# EAGLE library part TX2SO?-* (library relay2)
2 AMP. HIGH CAPACITY RELAY NAiS WITH HIGH SURGE VOLTAGE & HIGH BREAKDOWN VOLTAGE Source: http://www.mew-europe.com/.. en_ds_61022_0001.pdf
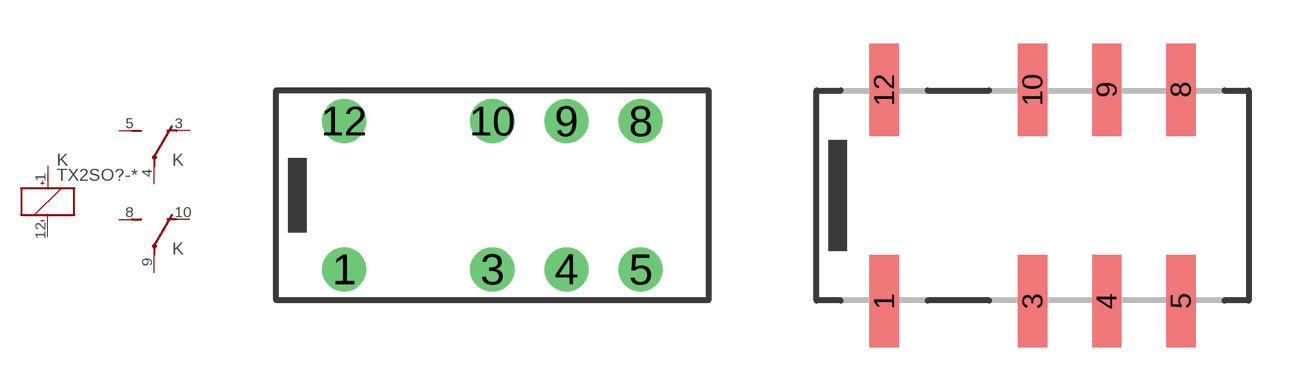
[diagram p75: symbol with the pads of TX2; footprints TX2, TX2SA]

Designator prefix K; gates _=K+- 1=U 2=U

## TX2SO-1.5V (OC_FARNELL: unknown; OC_NEWARK: unknown), TX2SO-12V (OC_FARNELL: unknown; OC_NEWARK: unknown), TX2SO-24V (OC_FARNELL: unknown; OC_NEWARK: unknown), TX2SO-3V (OC_FARNELL: unknown; OC_NEWARK: unknown), TX2SO-4.5V (OC_FARNELL: unknown; OC_NEWARK: unknown), TX2SO-5V (OC_FARNELL: unknown; OC_NEWARK: unknown), TX2SO-6V (OC_FARNELL: unknown; OC_NEWARK: unknown), TX2SO-9V (OC_FARNELL: unknown; OC_NEWARK: unknown)  [TX2]
1  _:+  pas
3  1:O  pas
4  1:P  pas
5  1:S  pas
8  2:S  pas
9  2:P  pas
10  2:O  pas
12  _:-  pas

## TX2SOSA-1.5V (OC_FARNELL: unknown; OC_NEWARK: unknown), TX2SOSA-12V (OC_FARNELL: unknown; OC_NEWARK: unknown), TX2SOSA-24V (OC_FARNELL: unknown; OC_NEWARK: unknown), TX2SOSA-3V (OC_FARNELL: unknown; OC_NEWARK: unknown), TX2SOSA-4.5V (OC_FARNELL: unknown; OC_NEWARK: unknown), TX2SOSA-48V (OC_FARNELL: unknown; OC_NEWARK: unknown), TX2SOSA-5V (OC_FARNELL: unknown; OC_NEWARK: unknown), TX2SOSA-6V (OC_FARNELL: unknown; OC_NEWARK: unknown), TX2SOSA-9V (OC_FARNELL: unknown; OC_NEWARK: unknown)  [TX2SA]
Pads as for TX2

## TX2SO-L-1.5V (OC_FARNELL: unknown; OC_NEWARK: unknown), TX2SO-L-12V (OC_FARNELL: unknown; OC_NEWARK: unknown), TX2SO-L-24V (OC_FARNELL: unknown; OC_NEWARK: unknown), TX2SO-L-3V (OC_FARNELL: unknown; OC_NEWARK: unknown), TX2SO-L-4.5V (OC_FARNELL: unknown; OC_NEWARK: unknown), TX2SO-L-5V (OC_FARNELL: unknown; OC_NEWARK: unknown), TX2SO-L-6V (OC_FARNELL: unknown; OC_NEWARK: unknown), TX2SO-L-9V (OC_FARNELL: unknown; OC_NEWARK: unknown)  [TX2]
1  _:-  pas
3  1:O  pas
4  1:P  pas
5  1:S  pas
8  2:S  pas
9  2:P  pas
10  2:O  pas
12  _:+  pas

## TX2SOSL-1.5V (OC_FARNELL: unknown; OC_NEWARK: unknown), TX2SOSL-12V (OC_FARNELL: unknown; OC_NEWARK: unknown), TX2SOSL-24V (OC_FARNELL: unknown; OC_NEWARK: unknown), TX2SOSL-3V (OC_FARNELL: unknown; OC_NEWARK: unknown), TX2SOSL-4.5V (OC_FARNELL: unknown; OC_NEWARK: unknown), TX2SOSL-48V (OC_FARNELL: unknown; OC_NEWARK: unknown), TX2SOSL-5V (OC_FARNELL: unknown; OC_NEWARK: unknown), TX2SOSL-6V (OC_FARNELL: unknown; OC_NEWARK: unknown), TX2SOSL-9V (OC_FARNELL: unknown; OC_NEWARK: unknown)  [TX2SL]
Pads as for TX2

## TX2SOSS-1.5V (OC_FARNELL: unknown; OC_NEWARK: unknown), TX2SOSS-12V (OC_FARNELL: unknown; OC_NEWARK: unknown), TX2SOSS-24V (OC_FARNELL: unknown; OC_NEWARK: unknown), TX2SOSS-3V (OC_FARNELL: unknown; OC_NEWARK: unknown), TX2SOSS-4.5V (OC_FARNELL: unknown; OC_NEWARK: unknown), TX2SOSS-48V (OC_FARNELL: unknown; OC_NEWARK: unknown), TX2SOSS-5V (OC_FARNELL: unknown; OC_NEWARK: unknown), TX2SOSS-6V (OC_FARNELL: unknown; OC_NEWARK: unknown), TX2SOSS-9V (OC_FARNELL: unknown; OC_NEWARK: unknown)  [TX2SS]
Pads as for TX2

## TX2SOSA-L-1.5V (OC_FARNELL: unknown; OC_NEWARK: unknown), TX2SOSA-L-12V (OC_FARNELL: unknown; OC_NEWARK: unknown), TX2SOSA-L-24V (OC_FARNELL: unknown; OC_NEWARK: unknown), TX2SOSA-L-3V (OC_FARNELL: unknown; OC_NEWARK: unknown), TX2SOSA-L-4.5V (OC_FARNELL: unknown; OC_NEWARK: unknown), TX2SOSA-L-5V (OC_FARNELL: unknown; OC_NEWARK: unknown), TX2SOSA-L-6V (OC_FARNELL: unknown; OC_NEWARK: unknown), TX2SOSA-L-9V (OC_FARNELL: unknown; OC_NEWARK: unknown)  [TX2SA]
Pads as for TX2

## TX2SOSL-L-1.5V (OC_FARNELL: unknown; OC_NEWARK: unknown), TX2SOSL-L-12V (OC_FARNELL: unknown; OC_NEWARK: unknown), TX2SOSL-L-24V (OC_FARNELL: unknown; OC_NEWARK: unknown), TX2SOSL-L-3V (OC_FARNELL: unknown; OC_NEWARK: unknown), TX2SOSL-L-4.5V (OC_FARNELL: unknown; OC_NEWARK: unknown), TX2SOSL-L-5V (OC_FARNELL: unknown; OC_NEWARK: unknown), TX2SOSL-L-6V (OC_FARNELL: unknown; OC_NEWARK: unknown), TX2SOSL-L-9V (OC_FARNELL: unknown; OC_NEWARK: unknown)  [TX2SL]
Pads as for TX2

## TX2SOSS-L-1.5V (OC_FARNELL: unknown; OC_NEWARK: unknown), TX2SOSS-L-12V (OC_FARNELL: unknown; OC_NEWARK: unknown), TX2SOSS-L-24V (OC_FARNELL: unknown; OC_NEWARK: unknown), TX2SOSS-L-3V (OC_FARNELL: unknown; OC_NEWARK: unknown), TX2SOSS-L-4.5V (OC_FARNELL: unknown; OC_NEWARK: unknown), TX2SOSS-L-5V (OC_FARNELL: unknown; OC_NEWARK: unknown), TX2SOSS-L-6V (OC_FARNELL: unknown; OC_NEWARK: unknown), TX2SOSS-L-9V (OC_FARNELL: unknown; OC_NEWARK: unknown)  [TX2SS]
Pads as for TX2

## Footprint TX2 (pad centres in mm)
2 AMP. HIGH CAPACITY RELAY NAiS WITH HIGH SURGE VOLTAGE & HIGH BREAKDOWN VOLTAGE Source: http://www.mew-europe.com/.. en_ds_61022_0001.pdf
drill 1: 1 -5.08,-2.54; 3 0,-2.54; 4 2.54,-2.54; 5 5.08,-2.54; 8 5.08,2.54; 9 2.54,2.54; 10 0,2.54; 12 -5.08,2.54

## Footprint TX2SA (pad centres in mm)
2 AMP. HIGH CAPACITY RELAY NAiS WITH HIGH SURGE VOLTAGE & HIGH BREAKDOWN VOLTAGE Source: http://www.mew-europe.com/.. en_ds_61022_0001.pdf
smd 1 x 3.16: 1 -5.08,-3.62; 3 0,-3.62; 4 2.54,-3.62; 5 5.08,-3.62; 8 5.08,3.62; 9 2.54,3.62; 10 0,3.62; 12 -5.08,3.62

## Footprint TX2SL (pad centres in mm)
2 AMP. HIGH CAPACITY RELAY NAiS WITH HIGH SURGE VOLTAGE & HIGH BREAKDOWN VOLTAGE Source: http://www.mew-europe.com/.. en_ds_61022_0001.pdf
smd 1 x 3.16: 1 -5.08,-3.62; 3 0,-3.62; 4 2.54,-3.62; 5 5.08,-3.62; 8 5.08,3.62; 9 2.54,3.62; 10 0,3.62; 12 -5.08,3.62

## Footprint TX2SS (pad centres in mm)
2 AMP. HIGH CAPACITY RELAY NAiS WITH HIGH SURGE VOLTAGE & HIGH BREAKDOWN VOLTAGE Source: http://www.mew-europe.com/.. en_ds_61022_0001.pdf
smd 1 x 2.16: 1 -5.08,-3.12; 3 0,-3.12; 4 2.54,-3.12; 5 5.08,-3.12; 8 5.08,3.12; 9 2.54,3.12; 10 0,3.12; 12 -5.08,3.12